# Altium footprint library display.PcbLib: 13 footprints
Each footprint in its own frame and in the unit in brackets; x right, y up, seen from the top. Pads: shape width x height; smd on the part's side, far side on the other; paste and mask are expansions set on the pad; w line width, h text height; cw(c..) or ccw(c..) is an arc to the next point about the centre after c.
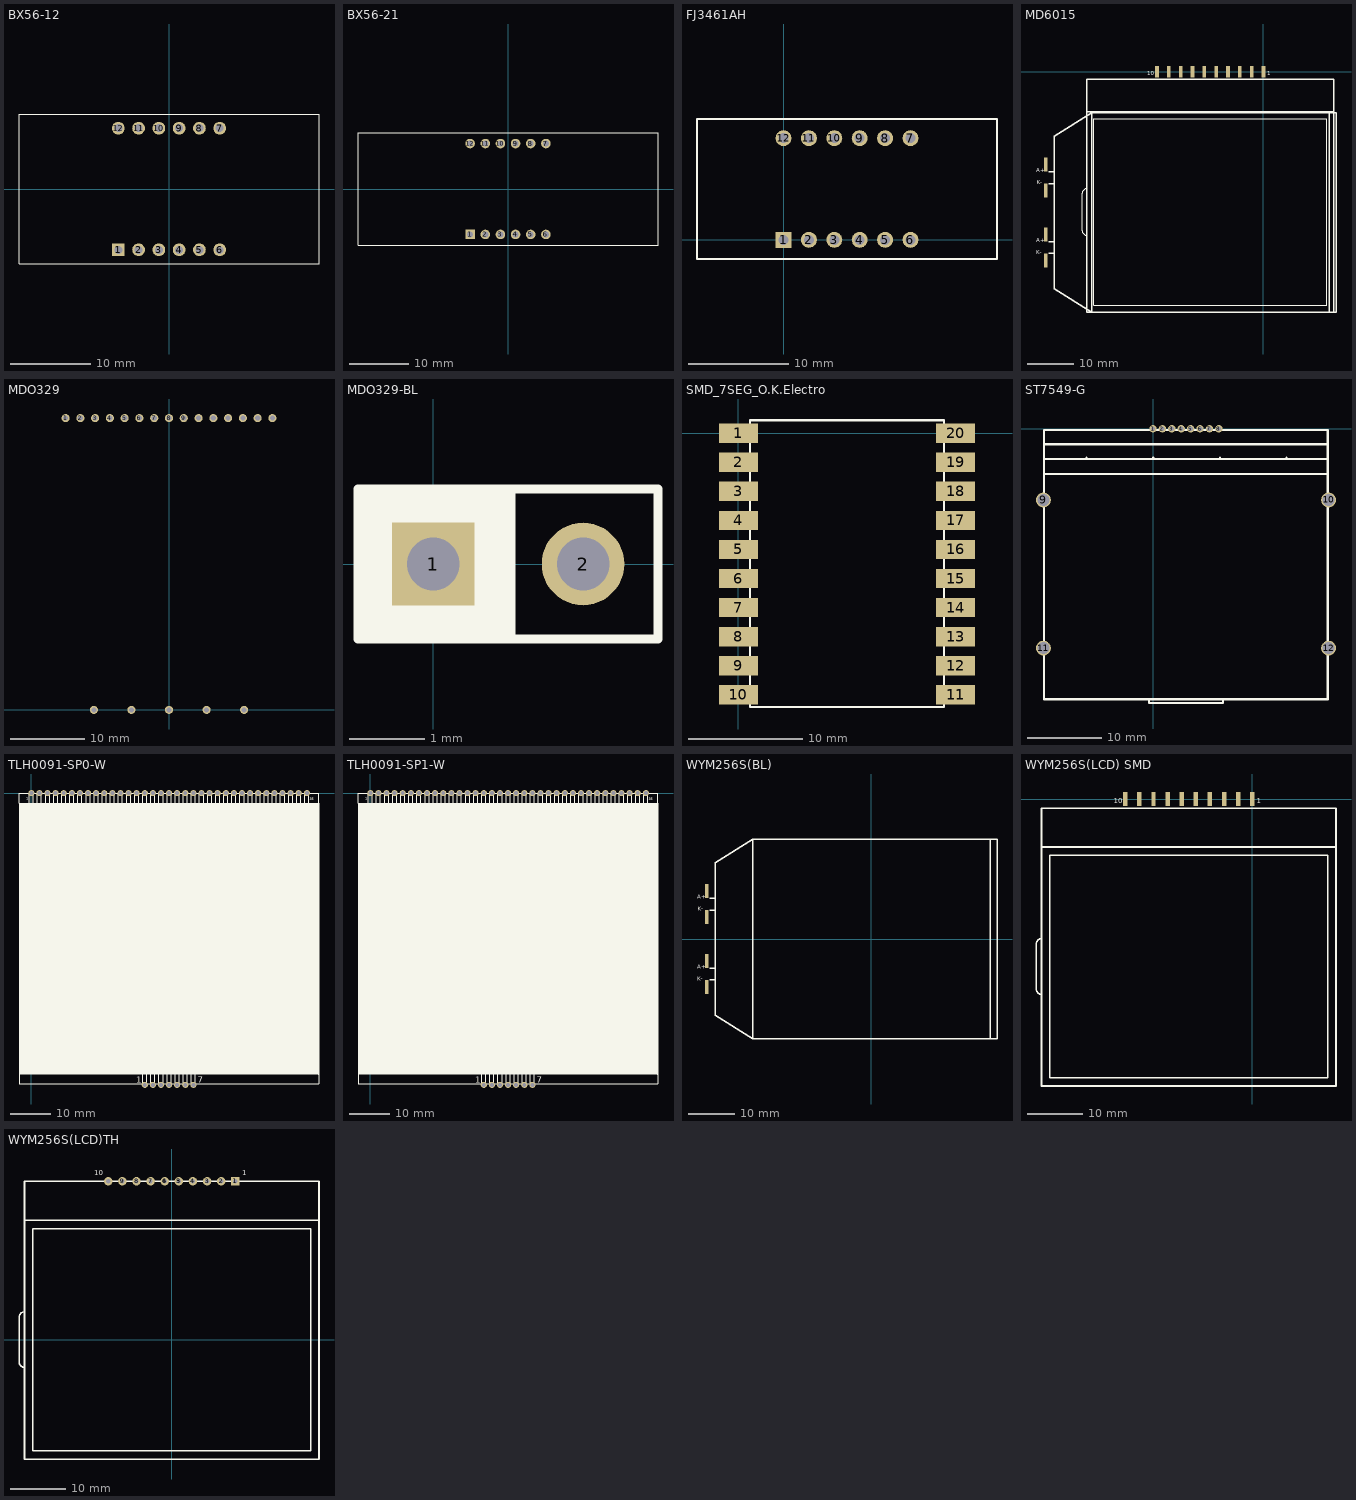
[diagram p0: the footprints below, top view; thin cyan lines are the x and y axes]

## BX56-12 [mm]
pads (12):
  rect 1.6x1.6 hole 1 unplated: 1(-6.35,-7.62)
  round 1.6 hole 1 unplated: 2(-3.81,-7.62) 3(-1.27,-7.62) 4(1.27,-7.62) 5(3.81,-7.62) 6(6.35,-7.62) 7(6.35,7.62) 8(3.81,7.62) 9(1.27,7.62) 10(-1.27,7.62) 11(-3.81,7.62) 12(-6.35,7.62)
Top Overlay:
  lines w0.15: -18.796,-9.398 -18.796,9.398 18.796,9.398 18.796,-9.398 -18.796,-9.398

## BX56-21 [mm]
pads (12):
  rect 1.6x1.6 hole 1: 1(-6.35,-7.62)
  round 1.6 hole 1: 2(-3.81,-7.62) 3(-1.27,-7.62) 4(1.27,-7.62) 5(3.81,-7.62) 6(6.35,-7.62) 7(6.35,7.62) 8(3.81,7.62) 9(1.27,7.62) 10(-1.27,7.62) 11(-3.81,7.62) 12(-6.35,7.62)
Top Overlay:
  lines w0.15: -25.146,-9.398 -25.146,9.398 25.146,9.398 25.146,-9.398 -25.146,-9.398
3D body "User Library-C-564 (7 segment 4 digit LED display).step": height 8, standoff -6.2, extent -25.2,-9.525 25.2,9.475

## FJ3461AH [mm]
pads (12):
  rect 1.6x1.6 hole 1: 1(0,0)
  round 1.6 hole 1: 2(2.54,0) 3(5.08,0) 4(7.62,0) 5(10.16,0) 6(12.7,0) 7(12.7,10.16) 8(10.16,10.16) 9(7.62,10.16) 10(5.08,10.16) 11(2.54,10.16) 12(0,10.16)
Top Overlay:
  lines w0.2: -8.65,-1.92 21.35,-1.92 21.35,0 21.35,12.08 -8.65,12.08 -8.65,10.16 -8.65,-1.92
3D body "User Library-IND 3641 RED.step": height 7.26, standoff -6.65, extent -8.64,-1.93 21.36,12.07

## MD6015 [mm]
pads (14):
  rect 0.8x2.5 smd: 1(0,0) 2(-2.54,0) 3(-5.08,0) 4(-7.62,0) 5(-10.16,0) 6(-12.7,0) 7(-15.24,0) 8(-17.78,0) 9(-20.32,0) 10(-22.86,0)
  rect 0.8x3 smd: 11(-46.74,-19.975) 12(-46.74,-25.535) 13(-46.74,-34.995) 14(-46.74,-40.535)
Top Overlay:
  lines w0.254: -37.93,-51.65 -37.93,-34.15 ; -37.93,-35.15 cw(c-37.93,-34.15) -38.93,-34.15 -38.93,-26.15 cw(c-37.93,-26.15) -37.93,-25.15 ; -36.43,-50.15 13.57,-50.15 13.57,-10.15 -36.43,-10.15 -36.43,-50.15
  lines w0.3: -46.09,-21.495 -44.94,-21.495 -44.92,-21.475 ; -46.08,-39.035 -44.96,-39.035 ; -46.07,-36.495 -44.95,-36.495 -44.94,-36.485 ; -46.07,-24.035 -44.93,-24.035 -44.92,-24.025 ; -44.92,-46.655 -44.92,-13.855 -36.92,-8.855 ; -44.92,-37.755 -44.92,-30.255 -44.92,-22.755 ; -44.905,-46.655 -36.92,-51.655 ; -37.93,-8.65 15.07,-8.65 ; -36.92,-8.955 -36.92,-8.855 ; -36.92,-51.655 -36.92,-8.855 ; -36.92,-51.655 -36.42,-51.655 14.08,-51.655 ; -36.92,-8.855 -11.42,-8.855 14.08,-8.855 ; 14.08,-51.655 15.58,-51.655 15.58,-8.855 14.08,-8.855 ; 14.08,-51.655 14.08,-8.855 ; -37.93,-51.65 15.07,-51.65 15.07,-1.65 -37.93,-1.65 -37.93,-51.65
  text "A+" at -48.84,-36.935 h1.52
  text "K-" at -48.76,-39.555 h1.52
  text "K-" at -48.71,-24.535 h1.52
  text "A+" at -48.76,-21.975 h1.52
  text "1" at 0.77,-1.15 h1.52
  text "10" at -24.93,-1.15 h1.52
3D body "SST201.STEP": height 5.2, standoff 0, extent -46.915,-51.725 15.585,0.275

## MDO329 [mm]
pads (20):
  round 1.1 hole 0.7: 1(-14,39.5) 2(-12,39.5) 3(-10,39.5) 4(-8,39.5) 5(-6,39.5) 6(-4,39.5) 7(-2,39.5) 8(0,39.5) 9(2,39.5) 10(4,39.5) 11(6,39.5) 12(8,39.5) 13(10,39.5) 14(12,39.5) 15(14,39.5) 16(10.16,0) 17(5.08,0) 18(0,0) 19(-5.08,0) 20(-10.16,0)
3D body "LCD+BL.STEP": height 5.51, standoff -1.99, extent -21.6,-1.55 20.6,39.65

## MDO329-BL [mm]
pads (2):
  rect 1.1x1.1 hole 0.7: 1(0,0)
  round 1.1 hole 0.7: 2(2,0)
Top Overlay:
  rectangle: -1,-1 1.1,1
  lines w0.125: -1,-1 3,-1 3,1 -1,1 -1,-1

## SMD_7SEG_O.K.Electro [mm]
pads (20):
  rect 3.4x1.7 smd: 1(0,0) 2(0,-2.54) 3(0,-5.08) 4(0,-7.62) 5(0,-10.16) 6(0,-12.7) 7(0,-15.24) 8(0,-17.78) 9(0,-20.32) 10(0,-22.86) 11(19,-22.86) 12(19,-20.32) 13(19,-17.78) 14(19,-15.24) 15(19,-12.7) 16(19,-10.16) 17(19,-7.62) 18(19,-5.08) 19(19,-2.54) 20(19,0)
Top Overlay:
  lines w0.2: 1,-23.95 18,-23.95 18,1.15 1,1.15 1,-23.95
3D body "ACDX56-41_1.STEP": height 3.8, standoff 0, extent -0.025,-23.975 18.975,1.125

## ST7549-G [mm]
pads (12):
  round 1 hole 0.6: 1(0,0) 2(1.27,0) 3(2.54,0) 4(3.81,0) 5(5.08,0) 6(6.35,0) 7(7.62,0) 8(8.89,0)
  round 2 hole 1.6: 9(-14.795,-9.61) 10(23.705,-9.61) 11(-14.795,-29.61) 12(23.705,-29.61)
Top Overlay:
  lines w0.3: -14.705,-36.505 23.595,-36.505 ; -14.705,-36.5 -14.705,-0.155 23.595,-0.155 23.595,-36.5 ; -14.7,-6.11 23.605,-6.11 ; -14.7,-2.085 23.6,-2.1 ; -14.67,-4.085 23.6,-4.085 ; -8.97,-4.085 -8.97,-3.875 ; -0.545,-36.51 -0.545,-37.01 9.455,-37.01 9.455,-36.51 ; 0.03,-4.085 0.03,-3.875 ; 9.03,-4.06 9.03,-3.875 ; 18.03,-4.075 18.03,-3.875
3D body "LCD-asm_NEW-01-1.step": height 4.85, standoff -3, extent -15.805,-36.35 24.695,0.15

## TLH0091-SP0-W [mil]
pads (42):
  round 60 hole 38: 1(0,0) 2(78.74,0) 3(157.48,0) 4(236.22,0) 5(314.96,0) 6(393.7,0) 7(472.44,0) 8(551.18,0) 9(629.92,0) 10(708.66,0) 11(787.4,0) 12(866.14,0) 13(944.88,0) 14(1023.62,0) 15(1102.36,0) 16(1181.1,0) 17(1259.84,0) 18(1338.58,0) 19(1417.32,0) 20(1496.06,0) 21(1574.8,0) 22(1653.54,0) 23(1732.28,0) 24(1811.02,0) 25(1889.76,0) 26(1968.5,0) 27(2047.24,0) 28(2125.98,0) 29(2204.72,0) 30(2283.46,0) 31(2362.2,0) 32(2440.94,0) 33(2519.68,0) 34(2598.43,0) 35(2677.17,0) 36(1102.36,-2834.65) 37(1181.1,-2834.65) 38(1259.84,-2834.65) 39(1338.58,-2834.65) 40(1417.32,-2834.65) 41(1496.06,-2834.65) 42(1574.8,-2834.65)
Top Overlay:
  region: 2794.96,-98.35 3.78,-99.37 -119.84,-99.37 -119.33,-2663.82 -119.33,-2723.31 8.39,-2723.31 2670.32,-2723.82 2795.47,-2723.82 2794.96,-216.3
  lines w11.81: -118.11,-2822.83 -118.12,-98.4 ; -118.12,-2822.81 2795.26,-2822.81 ; -118.12,-2724.38 2795.26,-2724.38 ; -19.7,-98.4 -19.7,-7.85 19.67,-7.85 19.67,-98.4 ; 59.04,-98.4 59.04,-7.85 98.41,-7.85 98.41,-98.4 ; 137.78,-98.4 137.78,-7.85 177.15,-7.85 177.15,-98.4 ; 216.52,-98.4 216.52,-7.85 255.89,-7.85 255.89,-98.4 ; 295.26,-98.4 295.26,-7.85 334.63,-7.85 334.63,-98.4 ; 374,-98.4 374,-7.85 413.37,-7.85 413.37,-98.4 ; 452.74,-98.4 452.74,-7.85 492.11,-7.85 492.11,-98.4 ; 531.48,-98.4 531.48,-7.85 570.85,-7.85 570.85,-98.4 ; 610.22,-98.4 610.22,-7.85 649.59,-7.85 649.59,-98.4 ; 688.96,-98.4 688.96,-7.85 728.33,-7.85 728.33,-98.4 ; 767.7,-98.4 767.7,-7.85 807.07,-7.85 807.07,-98.4 ; 846.44,-98.4 846.44,-7.85 885.81,-7.85 885.81,-98.4 ; 925.18,-98.4 925.18,-7.85 964.55,-7.85 964.55,-98.4 ; 1003.92,-98.4 1003.92,-7.85 1043.29,-7.85 1043.29,-98.4 ; 1082.66,-2724.38 1082.66,-2814.94 1122.03,-2814.94 1122.03,-2724.38 ; 1082.66,-98.4 1082.66,-7.85 1122.03,-7.85 1122.03,-98.4 ; 1161.4,-2724.38 1161.4,-2814.94 1200.77,-2814.94 1200.77,-2724.38 ; 1161.4,-98.4 1161.4,-7.85 1200.77,-7.85 1200.77,-98.4 ; 1240.14,-2724.38 1240.14,-2814.94 1279.51,-2814.94 1279.51,-2724.38 ; 1240.14,-98.4 1240.14,-7.85 1279.51,-7.85 1279.51,-98.4 ; 1318.88,-2724.38 1318.88,-2814.94 1358.25,-2814.94 1358.25,-2724.38 ; 1318.88,-98.4 1318.88,-7.85 1358.25,-7.85 1358.25,-98.4 ; 1397.62,-2724.38 1397.62,-2814.94 1436.99,-2814.94 1436.99,-2724.38 ; 1397.62,-98.4 1397.62,-7.85 1436.99,-7.85 1436.99,-98.4 ; 1476.36,-2724.38 1476.36,-2814.94 1515.73,-2814.94 1515.73,-2724.38 ; 1476.36,-98.4 1476.36,-7.85 1515.73,-7.85 1515.73,-98.4 ; 1555.1,-2724.38 1555.1,-2814.94 1594.47,-2814.94 1594.47,-2724.38 ; 1555.1,-98.4 1555.1,-7.85 1594.47,-7.85 1594.47,-98.4 ; 1633.84,-98.4 1633.84,-7.85 1673.21,-7.85 1673.21,-98.4 ; 1712.58,-98.4 1712.58,-7.85 1751.95,-7.85 1751.95,-98.4 ; 1791.32,-98.4 1791.32,-7.85 1830.69,-7.85 1830.69,-98.4 ; 1870.07,-98.4 1870.07,-7.85 1909.43,-7.85 1909.43,-98.4 ; 1948.81,-98.4 1948.81,-7.85 1988.18,-7.85 1988.18,-98.4 ; 2027.55,-98.4 2027.55,-7.85 2066.92,-7.85 2066.92,-98.4 ; 2106.29,-98.4 2106.29,-7.85 2145.66,-7.85 2145.66,-98.4 ; 2185.03,-98.4 2185.03,-7.85 2224.4,-7.85 2224.4,-98.4 ; 2263.77,-98.4 2263.77,-7.85 2303.14,-7.85 2303.14,-98.4 ; 2342.51,-98.4 2342.51,-7.85 2381.88,-7.85 2381.88,-98.4 ; 2421.25,-98.4 2421.25,-7.85 2460.62,-7.85 2460.62,-98.4 ; 2499.99,-98.4 2499.99,-7.85 2539.36,-7.85 2539.36,-98.4 ; 2578.73,-98.4 2578.73,-7.85 2618.1,-7.85 2618.1,-98.4 ; 2657.47,-98.4 2657.47,-7.85 2696.84,-7.85 2696.84,-98.4 ; 2795.26,-2736.2 2795.26,0.02 -118.12,0.02 -118.12,-98.4 ; 2795.28,-2822.83 2795.26,-98.4 -118.12,-98.4
  text "1" at -49.54,-64.86 h24.64
  text "35" at 2706.29,-67.3 h24.64
  text "1" at 1021.69,-2812.04 h58.54
  text "7" at 1615.9,-2812.04 h58.54
3D body "LCD_GH80046-SPO-W_ENG ñ Backlight unit.STEP": height 220.49, standoff -125.97, extent -157.48,-2893.7 2795.28,5.9

## TLH0091-SP1-W [mil]
pads (42):
  round 60 hole 38: 1(0,0) 2(78.74,0) 3(157.48,0) 4(236.22,0) 5(314.96,0) 6(393.7,0) 7(472.44,0) 8(551.18,0) 9(629.92,0) 10(708.66,0) 11(787.4,0) 12(866.14,0) 13(944.88,0) 14(1023.62,0) 15(1102.36,0) 16(1181.1,0) 17(1259.84,0) 18(1338.58,0) 19(1417.32,0) 20(1496.06,0) 21(1574.8,0) 22(1653.54,0) 23(1732.28,0) 24(1811.02,0) 25(1889.76,0) 26(1968.5,0) 27(2047.24,0) 28(2125.98,0) 29(2204.72,0) 30(2283.46,0) 31(2362.2,0) 32(2440.94,0) 33(2519.68,0) 34(2598.43,0) 35(2677.17,0) 36(1102.36,-2834.65) 37(1181.1,-2834.65) 38(1259.84,-2834.65) 39(1338.58,-2834.65) 40(1417.32,-2834.65) 41(1496.06,-2834.65) 42(1574.8,-2834.65)
Top Overlay:
  region: 2794.96,-98.35 3.78,-99.37 -119.84,-99.37 -119.33,-2663.82 -119.33,-2723.31 8.39,-2723.31 2670.32,-2723.82 2795.47,-2723.82 2794.96,-216.3
  lines w11.81: -118.11,-2822.83 -118.12,-98.4 ; -118.12,-2822.81 2795.26,-2822.81 ; -118.12,-2724.38 2795.26,-2724.38 ; -19.7,-98.4 -19.7,-7.85 19.67,-7.85 19.67,-98.4 ; 59.04,-98.4 59.04,-7.85 98.41,-7.85 98.41,-98.4 ; 137.78,-98.4 137.78,-7.85 177.15,-7.85 177.15,-98.4 ; 216.52,-98.4 216.52,-7.85 255.89,-7.85 255.89,-98.4 ; 295.26,-98.4 295.26,-7.85 334.63,-7.85 334.63,-98.4 ; 374,-98.4 374,-7.85 413.37,-7.85 413.37,-98.4 ; 452.74,-98.4 452.74,-7.85 492.11,-7.85 492.11,-98.4 ; 531.48,-98.4 531.48,-7.85 570.85,-7.85 570.85,-98.4 ; 610.22,-98.4 610.22,-7.85 649.59,-7.85 649.59,-98.4 ; 688.96,-98.4 688.96,-7.85 728.33,-7.85 728.33,-98.4 ; 767.7,-98.4 767.7,-7.85 807.07,-7.85 807.07,-98.4 ; 846.44,-98.4 846.44,-7.85 885.81,-7.85 885.81,-98.4 ; 925.18,-98.4 925.18,-7.85 964.55,-7.85 964.55,-98.4 ; 1003.92,-98.4 1003.92,-7.85 1043.29,-7.85 1043.29,-98.4 ; 1082.66,-2724.38 1082.66,-2814.94 1122.03,-2814.94 1122.03,-2724.38 ; 1082.66,-98.4 1082.66,-7.85 1122.03,-7.85 1122.03,-98.4 ; 1161.4,-2724.38 1161.4,-2814.94 1200.77,-2814.94 1200.77,-2724.38 ; 1161.4,-98.4 1161.4,-7.85 1200.77,-7.85 1200.77,-98.4 ; 1240.14,-2724.38 1240.14,-2814.94 1279.51,-2814.94 1279.51,-2724.38 ; 1240.14,-98.4 1240.14,-7.85 1279.51,-7.85 1279.51,-98.4 ; 1318.88,-2724.38 1318.88,-2814.94 1358.25,-2814.94 1358.25,-2724.38 ; 1318.88,-98.4 1318.88,-7.85 1358.25,-7.85 1358.25,-98.4 ; 1397.62,-2724.38 1397.62,-2814.94 1436.99,-2814.94 1436.99,-2724.38 ; 1397.62,-98.4 1397.62,-7.85 1436.99,-7.85 1436.99,-98.4 ; 1476.36,-2724.38 1476.36,-2814.94 1515.73,-2814.94 1515.73,-2724.38 ; 1476.36,-98.4 1476.36,-7.85 1515.73,-7.85 1515.73,-98.4 ; 1555.1,-2724.38 1555.1,-2814.94 1594.47,-2814.94 1594.47,-2724.38 ; 1555.1,-98.4 1555.1,-7.85 1594.47,-7.85 1594.47,-98.4 ; 1633.84,-98.4 1633.84,-7.85 1673.21,-7.85 1673.21,-98.4 ; 1712.58,-98.4 1712.58,-7.85 1751.95,-7.85 1751.95,-98.4 ; 1791.32,-98.4 1791.32,-7.85 1830.69,-7.85 1830.69,-98.4 ; 1870.07,-98.4 1870.07,-7.85 1909.43,-7.85 1909.43,-98.4 ; 1948.81,-98.4 1948.81,-7.85 1988.18,-7.85 1988.18,-98.4 ; 2027.55,-98.4 2027.55,-7.85 2066.92,-7.85 2066.92,-98.4 ; 2106.29,-98.4 2106.29,-7.85 2145.66,-7.85 2145.66,-98.4 ; 2185.03,-98.4 2185.03,-7.85 2224.4,-7.85 2224.4,-98.4 ; 2263.77,-98.4 2263.77,-7.85 2303.14,-7.85 2303.14,-98.4 ; 2342.51,-98.4 2342.51,-7.85 2381.88,-7.85 2381.88,-98.4 ; 2421.25,-98.4 2421.25,-7.85 2460.62,-7.85 2460.62,-98.4 ; 2499.99,-98.4 2499.99,-7.85 2539.36,-7.85 2539.36,-98.4 ; 2578.73,-98.4 2578.73,-7.85 2618.1,-7.85 2618.1,-98.4 ; 2657.47,-98.4 2657.47,-7.85 2696.84,-7.85 2696.84,-98.4 ; 2795.26,-2736.2 2795.26,0.02 -118.12,0.02 -118.12,-98.4 ; 2795.28,-2822.83 2795.26,-98.4 -118.12,-98.4
  text "1" at -49.54,-64.86 h24.64
  text "35" at 2706.29,-67.3 h24.64
  text "1" at 1021.69,-2812.04 h58.54
  text "7" at 1615.9,-2812.04 h58.54
3D body "lcd+backlight MCS350.STEP": height 220.47, standoff -125.98, extent -157.48,-2893.7 2795.28,5.91

## WYM256S(BL) [mm] "Baklight LCD"
pads (4):
  rect 0.8x3 smd: 1(-35.32,10.28) 2(-35.32,4.72) 3(-35.32,-4.74) 4(-35.32,-10.28)
Top Overlay:
  lines w0.3: -34.67,8.76 -33.52,8.76 -33.5,8.78 ; -34.66,-8.78 -33.54,-8.78 ; -34.65,-6.24 -33.53,-6.24 -33.52,-6.23 ; -34.65,6.22 -33.51,6.22 -33.5,6.23 ; -33.5,-16.4 -33.5,16.4 -25.5,21.4 ; -33.5,-7.5 -33.5,0 -33.5,7.5 ; -33.485,-16.4 -25.5,-21.4 ; -25.5,21.3 -25.5,21.4 ; -25.5,-21.4 -25,-21.4 25.5,-21.4 ; -25.5,-21.4 -25.5,21.4 ; -25.5,21.4 0,21.4 25.5,21.4 ; 25.5,-21.4 25.5,21.4 ; 25.5,-21.4 27,-21.4 27,21.4 25.5,21.4
  text "A+" at -37.34,8.28 h1.52
  text "K-" at -37.29,5.72 h1.52
  text "K-" at -37.34,-9.3 h1.52
  text "A+" at -37.42,-6.68 h1.52

## WYM256S(LCD) SMD [mm]
pads (10):
  rect 0.8x2.5 smd: 1(0,0) 2(-2.54,0) 3(-5.08,0) 4(-7.62,0) 5(-10.16,0) 6(-12.7,0) 7(-15.24,0) 8(-17.78,0) 9(-20.32,0) 10(-22.86,0)
Top Overlay:
  lines w0.254: -37.93,-51.65 -37.93,-34.15 ; -37.93,-35.15 cw(c-37.93,-34.15) -38.93,-34.15 -38.93,-26.15 cw(c-37.93,-26.15) -37.93,-25.15 ; -36.43,-50.15 -36.43,-10.15 13.57,-10.15 13.57,-50.15 -36.43,-50.15
  lines w0.3: -37.93,-8.65 15.07,-8.65 ; -37.93,-51.65 -37.93,-1.65 15.07,-1.65 15.07,-51.65 -37.93,-51.65
  text "1" at 0.77,-1.15 h1.52
  text "10" at -24.93,-1.15 h1.52
3D body "SST201.STEP": height 5.2, standoff 0, extent -46.915,-51.725 15.585,0.275

## WYM256S(LCD)TH [mil]
pads (12):
  rect 60x60 hole 31.5: 1(450,1122.05)
  round 60 hole 31.5: 2(350,1122.05) 3(50,1122.05) 3(250,1122.05) 4(-50,1122.05) 4(150,1122.05) 5(50,1122.05) 6(-50,1122.05)
  round 60 hole 30: 7(-150,1122.05) 8(-250,1122.05) 9(-350,1122.05) 10(-450,1122.05)
Top Overlay:
  lines w10: -1043.31,-846.46 -1043.31,-157.48 ; -1043.31,-196.85 cw(c-1043.31,-157.48) -1082.68,-157.48 -1082.68,157.48 cw(c-1043.31,157.48) -1043.31,196.85 ; -984.25,-787.4 -984.25,787.4 984.25,787.4 984.25,-787.4 -984.25,-787.4
  lines w11.81: -1043.31,846.46 1043.31,846.46 ; -1043.31,-846.46 -1043.31,1122.05 1043.31,1122.05 1043.31,-846.46 -1043.31,-846.46
  text "1" at 500,1150 h60
  text "10" at -550,1150 h60